# Altium footprint library HMC5883L.PcbLib: 1 footprints
Each footprint in its own frame and in the unit in brackets; x right, y up, seen from the top. Pads: shape width x height; smd on the part's side, far side on the other; paste and mask are expansions set on the pad; w line width, h text height; cw(c..) or ccw(c..) is an arc to the next point about the centre after c.
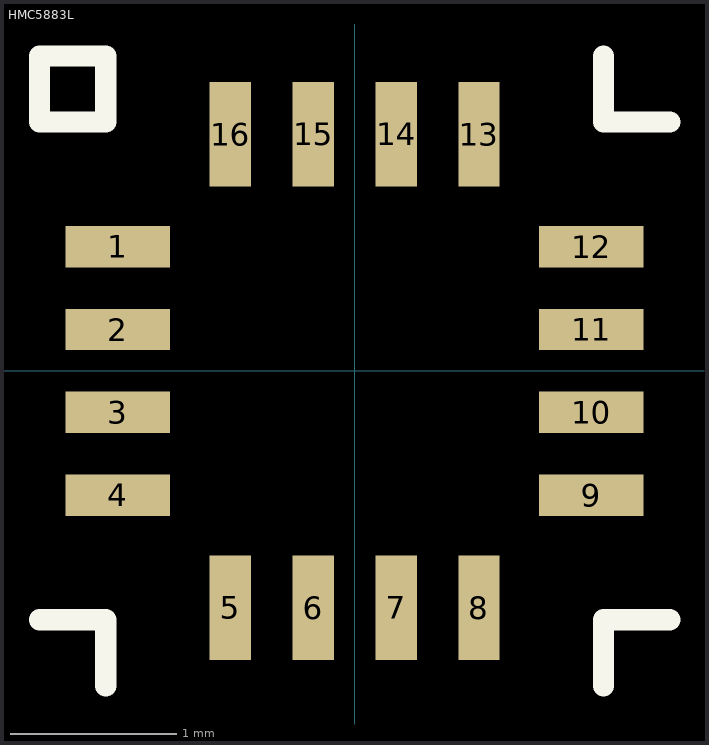
[diagram p0: the footprint, top view; thin cyan lines are the x and y axes]

## HMC5883L [mm]
pads (16):
  rect 0.63x0.25 smd mask+0.025: 1(-1.427,0.75) 2(-1.427,0.25) 3(-1.427,-0.25) 4(-1.427,-0.75) 9(1.427,-0.75) 10(1.427,-0.25) 11(1.427,0.25) 12(1.427,0.75)
  rect 0.25x0.63 smd mask+0.025: 5(-0.75,-1.427) 6(-0.25,-1.427) 7(0.25,-1.427) 8(0.75,-1.427) 13(0.75,1.427) 14(0.25,1.427) 15(-0.25,1.427) 16(-0.75,1.427)
Top Overlay:
  lines w0.127: -1.9,-1.5 -1.5,-1.5 -1.5,-1.9 ; 1.5,-1.9 1.5,-1.5 1.9,-1.5 ; 1.5,1.9 1.5,1.5 1.9,1.5 ; -1.9,1.5 -1.9,1.9 -1.5,1.9 -1.5,1.5 -1.9,1.5
Bottom Overlay:
  circle w0.254: c0.009,-0.003 r0.648
  lines w0.2: -1.604,0.038 -1.244,-0.194 ; -0.884,0.038 -1.244,-0.194 ; -0.042,0.88 0.191,1.24 ; -0.042,1.599 0.191,1.24 ; -1.244,-0.194 -1.244,1.24 0.191,1.24
  lines w0.254: -1.907,-1.936 1.9,-1.936 1.9,1.871 -1.907,1.871 -1.907,-1.936
  text "Z" at 1.5,-1.5 h1
  text "x" at -0.328,-0.33 h1
  text "HMC5883L" at 1.479,2.063 h0.4
  text "Y" at 0.397,0.625 h1
  text "X" at -1.566,-1.397 h1
3D body: height 1.1, standoff 1, extent -1.299,1.1 -1.1,1.3
3D body: height 0.9, standoff 0, extent -1.5,-1.5 1.5,1.5